# Altium footprint library 2.41-LGA封装.PcbLib: 5 footprints
Each footprint in its own frame and in the unit in brackets; x right, y up, seen from the top. Pads: shape width x height; smd on the part's side, far side on the other; paste and mask are expansions set on the pad; w line width, h text height; cw(c..) or ccw(c..) is an arc to the next point about the centre after c.
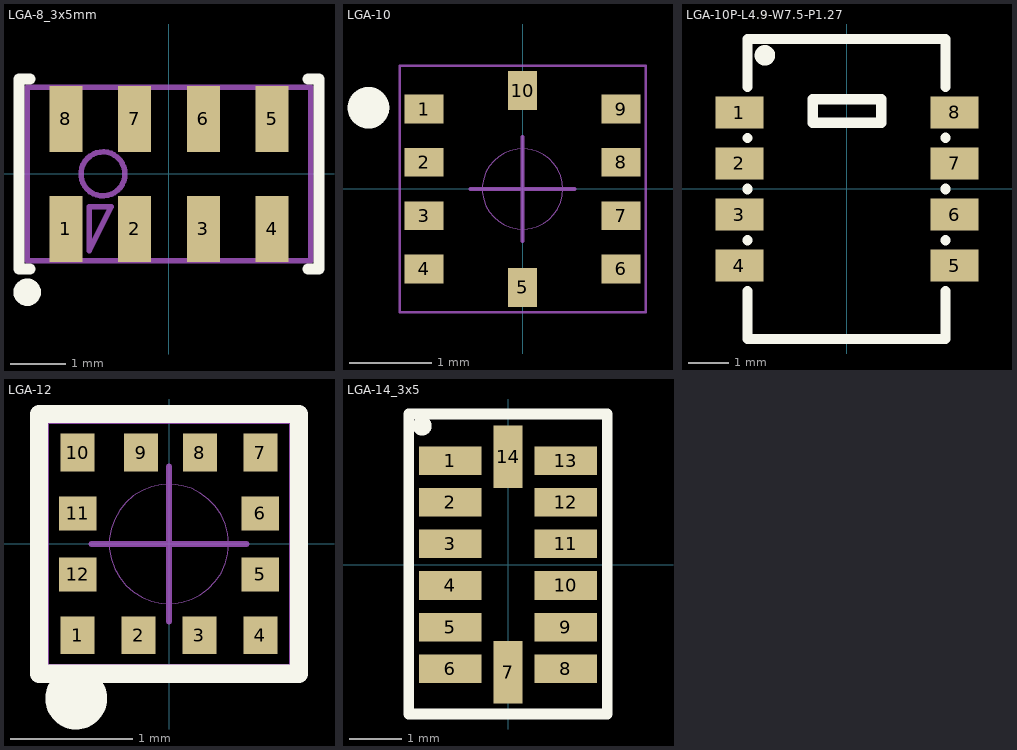
[diagram p0: the footprints below, top view; thin cyan lines are the x and y axes]

## LGA-8_3x5mm [mm]
pads (8):
  rect 0.6x1.2 smd: 1(-1.875,-1) 2(-0.625,-1) 3(0.625,-1) 4(1.875,-1) 5(1.875,1) 6(0.625,1) 7(-0.625,1) 8(-1.875,1)
Top Overlay:
  circle w0.25: c-2.575,-2.15 r0.125
  lines w0.2: -2.525,-1.725 -2.725,-1.725 -2.725,1.725 -2.525,1.725 ; 2.525,-1.725 2.725,-1.725 2.725,1.725 2.525,1.725
Mechanical 13:
  circle w0.1: c-1.2,0 r0.4
  lines w0.1: -2.575,-1.575 -2.575,1.575 2.575,1.575 2.575,-1.575 -2.575,-1.575 ; -1.45,-1.4 -1.05,-0.6 -1.45,-0.6 -1.45,-1.4

## LGA-10 [mm] "3X3mm"
height 0.9
pads (10):
  rect 0.475x0.35 smd mask+0.07: 1(-1.2,0.975) 2(-1.2,0.325) 3(-1.2,-0.325) 4(-1.2,-0.975) 6(1.2,-0.975) 7(1.2,-0.325) 8(1.2,0.325) 9(1.2,0.975)
  rect 0.35x0.475 smd mask+0.07: 5(0,-1.2) 10(0,1.2)
Top Overlay:
  circle w0.254: c-1.88,0.991 r0.127
Top Solder:
  region: -1.27,-1.524 -1.524,-1.524 -1.524,-1.27 -1.651,-1.27 -1.651,-1.651 -1.27,-1.651
  region: 1.524,-1.27 1.524,-1.524 1.27,-1.524 1.27,-1.651 1.651,-1.651 1.651,-1.27
  region: 1.27,1.524 1.524,1.524 1.524,1.27 1.651,1.27 1.651,1.651 1.27,1.651
  region: -1.524,1.27 -1.524,1.524 -1.27,1.524 -1.27,1.651 -1.651,1.651 -1.651,1.27
Mechanical 14:
  circle w0.01: c0,0 r0.491
  lines w0.05: -0.635,0 0.635,0 ; 0,-0.635 0,0.635
Mechanical 15:
  lines w0.03: -1.5,-1.5 1.5,-1.5 1.5,1.5 -1.5,1.5 -1.5,-1.5
3D body: height 0.91, standoff 0, extent -1.5,-1.5 1.5,1.5

## LGA-10P-L4.9-W7.5-P1.27 [mil]
pads (8):
  rect 47.2x31.5 smd: 1(-105.47,74.97) 2(-105.5,25) 3(-105.5,-25) 4(-105.5,-75) 5(105.5,-75) 6(105.5,-25) 7(105.5,25) 8(105.5,75)
Top Overlay:
  circle w10: c-80.5,131 r5
  lines w10: -97.5,-99.85 -97.5,-147 96.59,-147 96.59,-99.85 ; -97.5,-50.15 -97.5,-49.85 ; -97.5,-0.15 -97.5,0.15 ; -97.5,49.85 -97.5,50.12 ; -97.5,99.82 -97.5,147 96.59,147 96.59,99.85 ; 96.59,-50.15 96.59,-49.85 ; 96.59,-0.15 96.59,0.15 ; 96.59,49.85 96.59,50.15 ; -33.5,65 33.5,65 33.5,88 -33.5,88 -33.5,65
3D body: height 20, standoff 1, extent -95,-145 95,145

## LGA-12 [mm] "2X2mm"
height 0.8
pads (12):
  rect 0.28x0.31 smd mask+0.07: 1(-0.75,-0.75) 2(-0.25,-0.75) 3(0.25,-0.75) 4(0.75,-0.75) 7(0.75,0.75) 8(0.254,0.75) 9(-0.229,0.75) 10(-0.75,0.75)
  rect 0.31x0.28 smd mask+0.07: 5(0.75,-0.25) 6(0.75,0.25) 11(-0.75,0.25) 12(-0.75,-0.25)
Top Overlay:
  circle w0.254: c-0.762,-1.27 r0.127
  lines w0.15: -1.067,-1.067 1.067,-1.067 1.067,1.067 -1.067,1.067 -1.067,-1.067
Mechanical 14:
  circle w0.01: c0,0 r0.491
  lines w0.05: -0.635,0 0.635,0 ; 0,-0.635 0,0.635
Mechanical 15:
  lines w0.03: -1,-1 1,-1 1,1 -1,1 -1,-1
3D body: height 0.96, standoff 0, extent -1,-1 1,1

## LGA-14_3x5 [mm]
pads (14):
  rect 1.2x0.55 smd: 1(-1.11,2) 2(-1.11,1.2) 3(-1.11,0.4) 4(-1.11,-0.4) 5(-1.11,-1.2) 6(-1.11,-2) 8(1.11,-2) 9(1.11,-1.2) 10(1.11,-0.4) 11(1.11,0.4) 12(1.11,1.2) 13(1.11,2)
  rect 0.55x1.2 smd: 7(0,-2.07) 14(0,2.07)
Top Overlay:
  circle w0.254: c-1.651,2.667 r0.057
  lines w0.203: -1.905,-2.87 -1.905,2.896 -1.041,2.896 1.905,2.896 1.905,-2.87 -1.905,-2.87
3D body: height 0.93, standoff -0.03, extent -1.5,-2.5 1.5,2.5